# Altium schematic symbol library 902-131A1011D10100.SchLib: 1 symbol
Pins are listed as number, name and electrical type; pins without a type are passive.

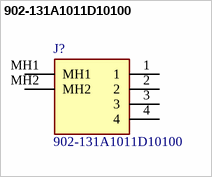
[diagram p0: symbol 902-131A1011D10100]

## 902-131A1011D10100
designator J?
USB 2.0 1 4 Female Type-A Plugin USB Connectors ROHS; Manufacturer_Name: Jing Extension of the Electronic Co.; Geometry.Height: 7.15mm; Manufacturer_Part_Number: 902-131A1011D10100; Mouser Part Number: *; Mouser Price/Stock: *; Arrow Part Number: *; Arrow Price/Stock: *; Datasheet Link: https://datasheet.lcsc.com/lcsc/2102261732_Jing-Extension-of-the-Electronic-Co--902-131A1011D10100_C2345.pdf
footprint 902131A1011D10100
pins: 1, 2, 3, 4, MH1, MH2